# Altium footprint library Fedor's_pcb.PcbLib: 174 footprints (part 10 of 14)
Each footprint in its own frame and in the unit in brackets; x right, y up, seen from the top. Pads: shape width x height; smd on the part's side, far side on the other; paste and mask are expansions set on the pad; w line width, h text height; cw(c..) or ccw(c..) is an arc to the next point about the centre after c.
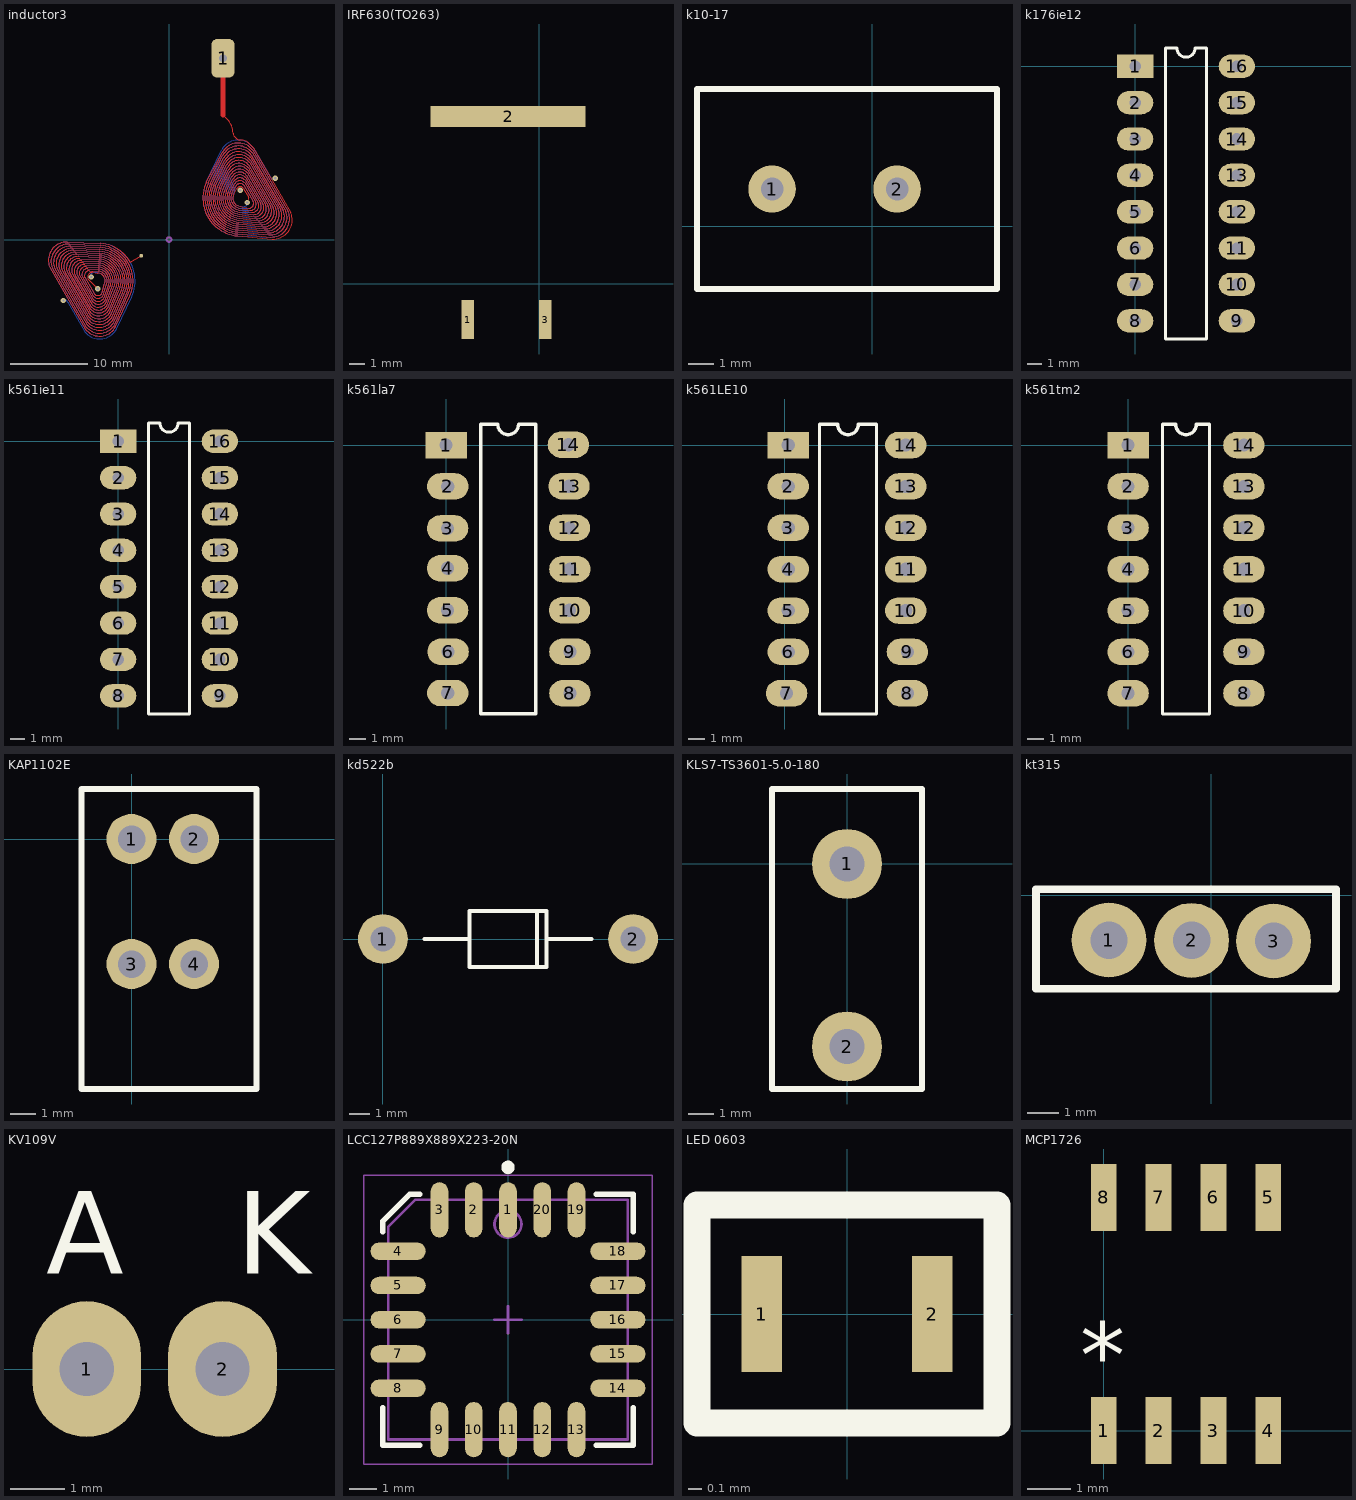
[diagram p9: the footprints below, top view; thin cyan lines are the x and y axes]

## inductor3 [mm]
pads (2):
  rrect50% 3x5 hole 1: 1(7,23.5)
  round 0.5 smd mask+0.07: 2(-3.6,-2.1)
via -10.063,-4.854 diameter 0.7 hole 0.3
via -13.683,-7.9 diameter 0.7 hole 0.3
via -9.233,-6.373 diameter 0.7 hole 0.3
via 10.136,4.81 diameter 0.7 hole 0.3
via 9.233,6.373 diameter 0.7 hole 0.3
via 13.777,7.97 diameter 0.7 hole 0.3
Top Layer:
  lines w0.1: -9.233,-6.373 -10.5,-5.1 cw(c-9.919,-4.868) -9.892,-4.243 -9.214,-4.34 cw(c-9.301,-5.37) -8.365,-5.81 -8.661,-6.912 cw(c-9.216,-6.623) -9.708,-7.011 -10.925,-4.902 cw(c-10.344,-4.67) -10.317,-4.045 -9.193,-4.082 cw(c-9.301,-5.37) -8.131,-5.92 ; -3.6,-2.1 -5.047,-2.914 ccw(c-9.301,-5.37) -8.89,-0.475 -13.162,-0.334 ccw(c-13.265,-2.71) -15.473,-3.591 -10.847,-11.605 ccw(c-8.979,-10.133) -6.871,-11.232 -5.091,-7.351 ccw(c-9.301,-5.37) -8.911,-0.733 -12.959,-0.599 ccw(c-13.057,-2.85) -15.148,-3.685 -10.765,-11.276 ccw(c-8.996,-9.883) -6.999,-10.923 -5.324,-7.241 ccw(c-9.301,-5.37) -8.933,-0.991 -12.756,-0.864 ccw(c-12.848,-2.99) -14.823,-3.779 -10.684,-10.948 ccw(c-9.013,-9.632) -7.127,-10.615 -5.558,-7.131 ccw(c-9.301,-5.37) -8.955,-1.248 -12.553,-1.13 ccw(c-12.639,-3.13) -14.499,-3.872 -10.603,-10.62 ccw(c-9.03,-9.381) -7.254,-10.306 -5.792,-7.021 ccw(c-9.301,-5.37) -8.976,-1.506 -12.349,-1.395 ccw(c-12.431,-3.27) -14.174,-3.966 -10.521,-10.292 ccw(c-9.047,-9.13) -7.382,-9.998 -6.026,-6.911 ccw(c-9.301,-5.37) -8.998,-1.764 -12.146,-1.66 ccw(c-12.222,-3.41) -13.849,-4.059 -10.44,-9.964 ccw(c-9.064,-8.88) -7.51,-9.689 -6.26,-6.801 ccw(c-9.301,-5.37) -9.02,-2.021 -11.943,-1.925 ccw(c-12.013,-3.55) -13.524,-4.153 -10.359,-9.636 ccw(c-9.081,-8.629) -7.638,-9.381 -6.494,-6.691 ccw(c-9.301,-5.37) -9.041,-2.279 -11.74,-2.19 ccw(c-11.805,-3.69) -13.199,-4.247 -10.277,-9.308 ccw(c-9.098,-8.378) -7.766,-9.072 -6.728,-6.58 ccw(c-9.301,-5.37) -9.063,-2.536 -11.536,-2.455 ccw(c-11.596,-3.83) -12.874,-4.34 -10.196,-8.979 ccw(c-9.115,-8.128) -7.894,-8.764 -6.962,-6.47 ccw(c-9.301,-5.37) -9.084,-2.794 -11.333,-2.72 ccw(c-11.387,-3.97) -12.55,-4.434 -10.115,-8.651 ccw(c-9.132,-7.877) -8.022,-8.455 -7.196,-6.36 ccw(c-9.301,-5.37) -9.106,-3.052 -11.13,-2.985 ccw(c-11.179,-4.11) -12.225,-4.527 -10.033,-8.323 ccw(c-9.149,-7.626) -8.15,-8.147 -7.43,-6.25 ccw(c-9.301,-5.37) -9.128,-3.309 -10.927,-3.25 ccw(c-10.97,-4.25) -11.9,-4.621 -9.952,-7.995 ccw(c-9.166,-7.376) -8.278,-7.838 -7.664,-6.14 ccw(c-9.301,-5.37) -9.149,-3.567 -10.724,-3.515 ccw(c-10.762,-4.39) -11.575,-4.715 -9.87,-7.667 ccw(c-9.182,-7.125) -8.406,-7.53 -7.898,-6.03 ; 7,16.135 7.556,15.579 cw(c5.76,13.783) 8.3,13.783 ccw(c8.983,13.783) 8.5,13.3 8.688,13.112 ccw(c9.2,13.624) 9.2,12.9 cw(c9.2,11.063) 10.499,12.362 10.928,11.933 15.798,3.498 cw(c13.474,2.57) 13.366,0.069 8.89,0.475 cw(c9.301,5.37) 4.857,7.461 6.871,11.232 cw(c8.979,10.133) 10.847,11.604 15.473,3.591 cw(c13.265,2.71) 13.162,0.334 8.911,0.733 cw(c9.301,5.37) 5.091,7.351 6.999,10.923 cw(c8.996,9.883) 10.765,11.276 15.148,3.685 cw(c13.057,2.85) 12.959,0.599 8.933,0.991 cw(c9.301,5.37) 5.324,7.241 7.127,10.615 cw(c9.013,9.632) 10.684,10.948 14.823,3.779 cw(c12.848,2.99) 12.756,0.864 8.955,1.248 cw(c9.301,5.37) 5.558,7.131 7.254,10.306 cw(c9.03,9.381) 10.603,10.62 14.499,3.872 cw(c12.639,3.13) 12.553,1.13 8.976,1.506 cw(c9.301,5.37) 5.792,7.021 7.382,9.998 cw(c9.047,9.13) 10.521,10.292 14.174,3.966 cw(c12.431,3.27) 12.349,1.395 8.998,1.764 cw(c9.301,5.37) 6.026,6.911 7.51,9.689 cw(c9.064,8.88) 10.44,9.964 13.849,4.059 cw(c12.222,3.41) 12.146,1.66 9.02,2.021 cw(c9.301,5.37) 6.26,6.801 7.638,9.381 cw(c9.081,8.629) 10.359,9.636 13.524,4.153 cw(c12.013,3.55) 11.943,1.925 9.041,2.279 cw(c9.301,5.37) 6.494,6.691 7.766,9.072 cw(c9.098,8.378) 10.277,9.308 13.199,4.247 cw(c11.805,3.69) 11.74,2.19 9.063,2.536 cw(c9.301,5.37) 6.728,6.58 7.894,8.764 cw(c9.115,8.128) 10.196,8.979 12.874,4.34 cw(c11.596,3.83) 11.536,2.455 9.084,2.794 cw(c9.301,5.37) 6.962,6.47 8.022,8.455 cw(c9.132,7.877) 10.115,8.651 12.55,4.434 cw(c11.387,3.97) 11.333,2.72 9.106,3.052 cw(c9.301,5.37) 7.196,6.36 8.15,8.147 cw(c9.149,7.626) 10.033,8.323 12.225,4.527 cw(c11.179,4.11) 11.13,2.985 9.128,3.309 cw(c9.301,5.37) 7.43,6.25 8.278,7.838 cw(c9.166,7.376) 9.952,7.995 11.9,4.621 cw(c10.97,4.25) 10.927,3.25 9.149,3.567 cw(c9.301,5.37) 7.664,6.14 8.406,7.53 cw(c9.182,7.125) 9.87,7.667 11.575,4.715 cw(c10.762,4.39) 10.724,3.515 9.171,3.824 ; 10.136,4.81 10.26,5.026 ccw(c9.75,5.321) 10.319,5.474 9.626,6.682 ccw(c9.233,6.373) 8.789,6.604 8.365,5.81 ccw(c9.301,5.37) 9.214,4.34 10.317,4.045 ccw(c10.344,4.67) 10.925,4.902 9.708,7.011 ccw(c9.216,6.623) 8.661,6.912 8.131,5.92 ccw(c9.301,5.37) 9.193,4.082 ; -11.25,-4.808 cw(c-10.553,-4.53) -10.52,-3.78 ; -11.25,-4.808 cw(c-10.553,-4.53) -10.52,-3.78 ; -11.25,-4.808 -9.789,-7.339 ; -11.25,-4.808 -9.789,-7.339 ; -10.52,-3.78 -9.171,-3.824 ; -10.52,-3.78 -9.171,-3.824 ; -9.789,-7.339 ccw(c-9.199,-6.874) -8.534,-7.221 ; -9.789,-7.339 ccw(c-9.199,-6.874) -8.534,-7.221 ; -9.171,-3.824 cw(c-9.301,-5.37) -7.898,-6.03 ; -9.171,-3.824 cw(c-9.301,-5.37) -7.898,-6.03 ; -8.534,-7.221 -8.131,-5.92 ; -8.534,-7.221 -8.131,-5.92 ; 7.898,6.03 ccw(c9.301,5.37) 9.171,3.824 ; 7.898,6.03 ccw(c9.301,5.37) 9.171,3.824 ; 7.898,6.03 8.534,7.221 ; 7.898,6.03 8.534,7.221 ; 8.534,7.221 cw(c9.199,6.874) 9.789,7.339 ; 8.534,7.221 cw(c9.199,6.874) 9.789,7.339 ; 9.193,4.082 10.52,3.78 ; 9.193,4.082 10.52,3.78 ; 9.789,7.339 11.25,4.808 ; 9.789,7.339 11.25,4.808 ; 10.52,3.78 ccw(c10.553,4.53) 11.25,4.808 ; 10.52,3.78 ccw(c10.553,4.53) 11.25,4.808
  lines w0.6: 7,16.135 7,23.5
Mid-Layer 1:
  lines w0.1: -10.136,-4.81 -10.26,-5.026 ; -10.063,-4.854 -10.26,-5.026 ; -3.651,-2.108 -5.047,-2.914 cw(c-9.301,-5.37) -4.857,-7.461 -6.871,-11.232 cw(c-8.979,-10.133) -10.847,-11.604 -15.473,-3.591 cw(c-13.265,-2.71) -13.162,-0.334 -8.911,-0.733 cw(c-9.301,-5.37) -5.091,-7.351 -6.999,-10.923 cw(c-8.996,-9.883) -10.765,-11.276 -15.148,-3.685 cw(c-13.057,-2.85) -12.959,-0.599 -8.933,-0.991 cw(c-9.301,-5.37) -5.324,-7.241 -7.127,-10.615 cw(c-9.013,-9.632) -10.684,-10.948 -14.823,-3.779 cw(c-12.848,-2.99) -12.756,-0.864 -8.955,-1.248 cw(c-9.301,-5.37) -5.558,-7.131 -7.254,-10.306 cw(c-9.03,-9.381) -10.603,-10.62 -14.499,-3.872 cw(c-12.639,-3.13) -12.553,-1.13 -8.976,-1.506 cw(c-9.301,-5.37) -5.792,-7.021 -7.382,-9.998 cw(c-9.047,-9.13) -10.521,-10.292 -14.174,-3.966 cw(c-12.431,-3.27) -12.349,-1.395 -8.998,-1.764 cw(c-9.301,-5.37) -6.026,-6.911 -7.51,-9.689 cw(c-9.064,-8.88) -10.44,-9.964 -13.849,-4.059 cw(c-12.222,-3.41) -12.146,-1.66 -9.02,-2.021 cw(c-9.301,-5.37) -6.26,-6.801 -7.638,-9.381 cw(c-9.081,-8.629) -10.359,-9.636 -13.524,-4.153 cw(c-12.013,-3.55) -11.943,-1.925 -9.041,-2.279 cw(c-9.301,-5.37) -6.494,-6.691 -7.766,-9.072 cw(c-9.098,-8.378) -10.277,-9.308 -13.199,-4.247 cw(c-11.805,-3.69) -11.74,-2.19 -9.063,-2.536 cw(c-9.301,-5.37) -6.728,-6.58 -7.894,-8.764 cw(c-9.115,-8.128) -10.196,-8.979 -12.874,-4.34 cw(c-11.596,-3.83) -11.536,-2.455 -9.084,-2.794 cw(c-9.301,-5.37) -6.962,-6.47 -8.022,-8.455 cw(c-9.132,-7.877) -10.115,-8.651 -12.55,-4.434 cw(c-11.387,-3.97) -11.333,-2.72 -9.106,-3.052 cw(c-9.301,-5.37) -7.196,-6.36 -8.15,-8.147 cw(c-9.149,-7.626) -10.033,-8.323 -12.225,-4.527 cw(c-11.179,-4.11) -11.13,-2.985 -9.128,-3.309 cw(c-9.301,-5.37) -7.43,-6.25 -8.278,-7.838 cw(c-9.166,-7.376) -9.952,-7.995 -11.9,-4.621 cw(c-10.97,-4.25) -10.927,-3.25 -9.149,-3.567 cw(c-9.301,-5.37) -7.664,-6.14 -8.406,-7.53 cw(c-9.182,-7.125) -9.87,-7.667 -11.575,-4.715 cw(c-10.762,-4.39) -10.724,-3.515 -9.171,-3.824 ; 3.651,2.108 5.047,2.914 ccw(c9.301,5.37) 8.89,0.475 13.162,0.334 ccw(c13.265,2.71) 15.473,3.591 10.847,11.605 ccw(c8.979,10.133) 6.871,11.232 5.091,7.351 ccw(c9.301,5.37) 8.911,0.733 12.959,0.599 ccw(c13.057,2.85) 15.148,3.685 10.765,11.276 ccw(c8.996,9.883) 6.999,10.923 5.324,7.241 ccw(c9.301,5.37) 8.933,0.991 12.756,0.864 ccw(c12.848,2.99) 14.823,3.779 10.684,10.948 ccw(c9.013,9.632) 7.127,10.615 5.558,7.131 ccw(c9.301,5.37) 8.955,1.248 12.553,1.13 ccw(c12.639,3.13) 14.499,3.872 10.603,10.62 ccw(c9.03,9.381) 7.254,10.306 5.792,7.021 ccw(c9.301,5.37) 8.976,1.506 12.349,1.395 ccw(c12.431,3.27) 14.174,3.966 10.521,10.292 ccw(c9.047,9.13) 7.382,9.998 6.026,6.911 ccw(c9.301,5.37) 8.998,1.764 12.146,1.66 ccw(c12.222,3.41) 13.849,4.059 10.44,9.964 ccw(c9.064,8.88) 7.51,9.689 6.26,6.801 ccw(c9.301,5.37) 9.02,2.021 11.943,1.925 ccw(c12.013,3.55) 13.524,4.153 10.359,9.636 ccw(c9.081,8.629) 7.638,9.381 6.494,6.691 ccw(c9.301,5.37) 9.041,2.279 11.74,2.19 ccw(c11.805,3.69) 13.199,4.247 10.277,9.308 ccw(c9.098,8.378) 7.766,9.072 6.728,6.58 ccw(c9.301,5.37) 9.063,2.536 11.536,2.455 ccw(c11.596,3.83) 12.874,4.34 10.196,8.979 ccw(c9.115,8.128) 7.894,8.764 6.962,6.47 ccw(c9.301,5.37) 9.084,2.794 11.333,2.72 ccw(c11.387,3.97) 12.55,4.434 10.115,8.651 ccw(c9.132,7.877) 8.022,8.455 7.196,6.36 ccw(c9.301,5.37) 9.106,3.052 11.13,2.985 ccw(c11.179,4.11) 12.225,4.527 10.033,8.323 ccw(c9.149,7.626) 8.15,8.147 7.43,6.25 ccw(c9.301,5.37) 9.128,3.309 10.927,3.25 ccw(c10.97,4.25) 11.9,4.621 9.952,7.995 ccw(c9.166,7.376) 8.278,7.838 7.664,6.14 ccw(c9.301,5.37) 9.149,3.567 10.724,3.515 ccw(c10.762,4.39) 11.575,4.715 9.87,7.667 ccw(c9.182,7.125) 8.406,7.53 7.898,6.03 ; 9.233,6.373 10.5,5.1 cw(c9.919,4.868) 9.892,4.243 9.214,4.34 cw(c9.301,5.37) 8.365,5.81 8.661,6.912 cw(c9.216,6.623) 9.708,7.011 10.925,4.902 cw(c10.344,4.67) 10.317,4.045 9.193,4.082 cw(c9.301,5.37) 8.131,5.92 ; -11.25,-4.808 cw(c-10.553,-4.53) -10.52,-3.78 ; -11.25,-4.808 cw(c-10.553,-4.53) -10.52,-3.78 ; -11.25,-4.808 -9.789,-7.339 ; -11.25,-4.808 -9.789,-7.339 ; -10.52,-3.78 -9.193,-4.082 ; -10.52,-3.78 -9.193,-4.082 ; -10.26,-5.026 ccw(c-9.75,-5.321) -10.319,-5.474 -9.626,-6.682 ccw(c-9.233,-6.373) -8.789,-6.604 -8.365,-5.81 ccw(c-9.301,-5.37) -9.214,-4.34 -10.317,-4.045 ccw(c-10.344,-4.67) -10.925,-4.902 -9.708,-7.011 ccw(c-9.216,-6.623) -8.661,-6.912 -8.131,-5.92 ccw(c-9.301,-5.37) -9.193,-4.082 ; -9.789,-7.339 ccw(c-9.199,-6.874) -8.534,-7.221 ; -9.789,-7.339 ccw(c-9.199,-6.874) -8.534,-7.221 ; -9.171,-3.824 cw(c-9.301,-5.37) -7.898,-6.03 ; -9.171,-3.824 cw(c-9.301,-5.37) -7.898,-6.03 ; -8.534,-7.221 -7.898,-6.03 ; -8.534,-7.221 -7.898,-6.03 ; 7.898,6.03 ccw(c9.301,5.37) 9.171,3.824 ; 7.898,6.03 ccw(c9.301,5.37) 9.171,3.824 ; 8.131,5.92 8.534,7.221 ; 8.131,5.92 8.534,7.221 ; 8.534,7.221 cw(c9.199,6.874) 9.789,7.339 ; 8.534,7.221 cw(c9.199,6.874) 9.789,7.339 ; 9.171,3.824 10.52,3.78 ; 9.171,3.824 10.52,3.78 ; 9.789,7.339 11.25,4.808 ; 9.789,7.339 11.25,4.808 ; 10.52,3.78 ccw(c10.553,4.53) 11.25,4.808 ; 10.52,3.78 ccw(c10.553,4.53) 11.25,4.808
  lines w0.4: -3.651,-2.108 ccw(c0,0) 3.651,2.108
Mid-Layer 2:
  lines w0.1: -13.683,-7.9 ccw(c-13.868,-7.58) -13.548,-7.395 -13.613,-7.282 -15.798,-3.498 cw(c-13.474,-2.57) -13.366,-0.069 -8.89,-0.475 cw(c-9.301,-5.37) -4.857,-7.461 -6.871,-11.232 cw(c-8.979,-10.133) -10.847,-11.604 -15.473,-3.591 cw(c-13.265,-2.71) -13.162,-0.334 -8.911,-0.733 cw(c-9.301,-5.37) -5.091,-7.351 -6.999,-10.923 cw(c-8.996,-9.883) -10.765,-11.276 -15.148,-3.685 cw(c-13.057,-2.85) -12.959,-0.599 -8.933,-0.991 cw(c-9.301,-5.37) -5.324,-7.241 -7.127,-10.615 cw(c-9.013,-9.632) -10.684,-10.948 -14.823,-3.779 cw(c-12.848,-2.99) -12.756,-0.864 -8.955,-1.248 cw(c-9.301,-5.37) -5.558,-7.131 -7.255,-10.306 cw(c-9.03,-9.381) -10.603,-10.62 -14.499,-3.872 cw(c-12.639,-3.13) -12.553,-1.13 -8.976,-1.506 cw(c-9.301,-5.37) -5.792,-7.021 -7.382,-9.998 cw(c-9.047,-9.13) -10.521,-10.292 -14.174,-3.966 cw(c-12.431,-3.27) -12.349,-1.395 -8.998,-1.764 cw(c-9.301,-5.37) -6.026,-6.911 -7.51,-9.689 cw(c-9.064,-8.88) -10.44,-9.964 -13.849,-4.059 cw(c-12.222,-3.41) -12.146,-1.66 -9.02,-2.021 cw(c-9.301,-5.37) -6.26,-6.801 -7.638,-9.381 cw(c-9.081,-8.629) -10.359,-9.636 -13.524,-4.153 cw(c-12.013,-3.55) -11.943,-1.925 -9.041,-2.279 cw(c-9.301,-5.37) -6.494,-6.691 -7.766,-9.072 cw(c-9.098,-8.378) -10.277,-9.308 -13.199,-4.247 cw(c-11.805,-3.69) -11.74,-2.19 -9.063,-2.536 cw(c-9.301,-5.37) -6.728,-6.58 -7.894,-8.764 cw(c-9.115,-8.128) -10.196,-8.979 -12.874,-4.34 cw(c-11.596,-3.83) -11.536,-2.455 -9.084,-2.794 cw(c-9.301,-5.37) -6.962,-6.47 -8.022,-8.455 cw(c-9.132,-7.877) -10.115,-8.651 -12.55,-4.434 cw(c-11.387,-3.97) -11.333,-2.72 -9.106,-3.052 cw(c-9.301,-5.37) -7.196,-6.36 -8.15,-8.147 cw(c-9.149,-7.626) -10.033,-8.323 -12.225,-4.527 cw(c-11.179,-4.11) -11.13,-2.985 -9.128,-3.309 cw(c-9.301,-5.37) -7.43,-6.25 -8.278,-7.838 cw(c-9.166,-7.376) -9.952,-7.995 -11.9,-4.621 cw(c-10.97,-4.25) -10.927,-3.25 -9.149,-3.567 cw(c-9.301,-5.37) -7.664,-6.14 -8.406,-7.53 cw(c-9.182,-7.125) -9.87,-7.667 -11.575,-4.715 cw(c-10.762,-4.39) -10.724,-3.515 -9.171,-3.824 ; -9.233,-6.373 ccw(c-8.989,-6.231) -8.847,-6.476 ccw(c-9.329,-5.641) -8.398,-5.891 -8.365,-5.81 ccw(c-9.301,-5.37) -9.214,-4.34 -10.317,-4.045 ccw(c-10.344,-4.67) -10.925,-4.902 -9.708,-7.011 ccw(c-9.216,-6.623) -8.661,-6.912 -8.131,-5.92 ccw(c-9.301,-5.37) -9.193,-4.082 ; 9.233,6.373 ccw(c8.989,6.231) 8.847,6.476 ccw(c9.329,5.641) 8.398,5.891 8.365,5.81 ccw(c9.301,5.37) 9.214,4.34 10.317,4.045 ccw(c10.344,4.67) 10.925,4.902 9.708,7.011 ccw(c9.216,6.623) 8.661,6.912 8.131,5.92 ccw(c9.301,5.37) 9.193,4.082 ; 13.683,7.9 ccw(c13.868,7.58) 13.548,7.395 13.613,7.282 15.798,3.498 cw(c13.474,2.57) 13.366,0.069 8.89,0.475 cw(c9.301,5.37) 4.857,7.461 6.871,11.232 cw(c8.979,10.133) 10.847,11.604 15.473,3.591 cw(c13.265,2.71) 13.162,0.334 8.911,0.733 cw(c9.301,5.37) 5.091,7.351 6.999,10.923 cw(c8.996,9.883) 10.765,11.276 15.148,3.685 cw(c13.057,2.85) 12.959,0.599 8.933,0.991 cw(c9.301,5.37) 5.324,7.241 7.127,10.615 cw(c9.013,9.632) 10.684,10.948 14.823,3.779 cw(c12.848,2.99) 12.756,0.864 8.955,1.248 cw(c9.301,5.37) 5.558,7.131 7.255,10.306 cw(c9.03,9.381) 10.603,10.62 14.499,3.872 cw(c12.639,3.13) 12.553,1.13 8.976,1.506 cw(c9.301,5.37) 5.792,7.021 7.382,9.998 cw(c9.047,9.13) 10.521,10.292 14.174,3.966 cw(c12.431,3.27) 12.349,1.395 8.998,1.764 cw(c9.301,5.37) 6.026,6.911 7.51,9.689 cw(c9.064,8.88) 10.44,9.964 13.849,4.059 cw(c12.222,3.41) 12.146,1.66 9.02,2.021 cw(c9.301,5.37) 6.26,6.801 7.638,9.381 cw(c9.081,8.629) 10.359,9.636 13.524,4.153 cw(c12.013,3.55) 11.943,1.925 9.041,2.279 cw(c9.301,5.37) 6.494,6.691 7.766,9.072 cw(c9.098,8.378) 10.277,9.308 13.199,4.247 cw(c11.805,3.69) 11.74,2.19 9.063,2.536 cw(c9.301,5.37) 6.728,6.58 7.894,8.764 cw(c9.115,8.128) 10.196,8.979 12.874,4.34 cw(c11.596,3.83) 11.536,2.455 9.084,2.794 cw(c9.301,5.37) 6.962,6.47 8.022,8.455 cw(c9.132,7.877) 10.115,8.651 12.55,4.434 cw(c11.387,3.97) 11.333,2.72 9.106,3.052 cw(c9.301,5.37) 7.196,6.36 8.15,8.147 cw(c9.149,7.626) 10.033,8.323 12.225,4.527 cw(c11.179,4.11) 11.13,2.985 9.128,3.309 cw(c9.301,5.37) 7.43,6.25 8.278,7.838 cw(c9.166,7.376) 9.952,7.995 11.9,4.621 cw(c10.97,4.25) 10.927,3.25 9.149,3.567 cw(c9.301,5.37) 7.664,6.14 8.406,7.53 cw(c9.182,7.125) 9.87,7.667 11.575,4.715 cw(c10.762,4.39) 10.724,3.515 9.171,3.824 ; -11.25,-4.808 cw(c-10.553,-4.53) -10.52,-3.78 ; -11.25,-4.808 cw(c-10.553,-4.53) -10.52,-3.78 ; -11.25,-4.808 -9.789,-7.339 ; -11.25,-4.808 -9.789,-7.339 ; -10.52,-3.78 -9.193,-4.082 ; -10.52,-3.78 -9.193,-4.082 ; -9.789,-7.339 ccw(c-9.199,-6.874) -8.534,-7.221 ; -9.789,-7.339 ccw(c-9.199,-6.874) -8.534,-7.221 ; -9.171,-3.824 cw(c-9.301,-5.37) -7.898,-6.03 ; -9.171,-3.824 cw(c-9.301,-5.37) -7.898,-6.03 ; -8.534,-7.221 -7.898,-6.03 ; -8.534,-7.221 -7.898,-6.03 ; 7.898,6.03 ccw(c9.301,5.37) 9.171,3.824 ; 7.898,6.03 ccw(c9.301,5.37) 9.171,3.824 ; 7.898,6.03 8.534,7.221 ; 7.898,6.03 8.534,7.221 ; 8.534,7.221 cw(c9.199,6.874) 9.789,7.339 ; 8.534,7.221 cw(c9.199,6.874) 9.789,7.339 ; 9.193,4.082 10.52,3.78 ; 9.193,4.082 10.52,3.78 ; 9.789,7.339 11.25,4.808 ; 9.789,7.339 11.25,4.808 ; 10.52,3.78 ccw(c10.553,4.53) 11.25,4.808 ; 10.52,3.78 ccw(c10.553,4.53) 11.25,4.808
Bottom Layer:
  lines w0.1: -13.683,-7.9 cw(c-13.498,-8.22) -13.178,-8.035 -13.113,-8.148 -10.928,-11.933 ccw(c-8.962,-10.384) -6.743,-11.54 -4.857,-7.461 ccw(c-9.301,-5.37) -8.89,-0.475 -13.162,-0.334 ccw(c-13.265,-2.71) -15.473,-3.591 -10.847,-11.605 ccw(c-8.979,-10.133) -6.871,-11.232 -5.091,-7.351 ccw(c-9.301,-5.37) -8.911,-0.733 -12.959,-0.599 ccw(c-13.057,-2.85) -15.148,-3.685 -10.765,-11.276 ccw(c-8.996,-9.883) -6.999,-10.923 -5.324,-7.241 ccw(c-9.301,-5.37) -8.933,-0.991 -12.756,-0.864 ccw(c-12.848,-2.99) -14.823,-3.779 -10.684,-10.948 ccw(c-9.013,-9.632) -7.127,-10.615 -5.558,-7.131 ccw(c-9.301,-5.37) -8.955,-1.248 -12.553,-1.13 ccw(c-12.639,-3.13) -14.499,-3.872 -10.603,-10.62 ccw(c-9.03,-9.381) -7.254,-10.306 -5.792,-7.021 ccw(c-9.301,-5.37) -8.976,-1.506 -12.349,-1.395 ccw(c-12.431,-3.27) -14.174,-3.966 -10.521,-10.292 ccw(c-9.047,-9.13) -7.382,-9.998 -6.026,-6.911 ccw(c-9.301,-5.37) -8.998,-1.764 -12.146,-1.66 ccw(c-12.222,-3.41) -13.849,-4.059 -10.44,-9.964 ccw(c-9.064,-8.88) -7.51,-9.689 -6.26,-6.801 ccw(c-9.301,-5.37) -9.02,-2.021 -11.943,-1.925 ccw(c-12.013,-3.55) -13.524,-4.153 -10.359,-9.636 ccw(c-9.081,-8.629) -7.638,-9.381 -6.494,-6.691 ccw(c-9.301,-5.37) -9.041,-2.279 -11.74,-2.19 ccw(c-11.805,-3.69) -13.199,-4.247 -10.277,-9.308 ccw(c-9.098,-8.378) -7.766,-9.072 -6.728,-6.58 ccw(c-9.301,-5.37) -9.063,-2.536 -11.536,-2.455 ccw(c-11.596,-3.83) -12.874,-4.34 -10.196,-8.979 ccw(c-9.115,-8.128) -7.894,-8.764 -6.962,-6.47 ccw(c-9.301,-5.37) -9.084,-2.794 -11.333,-2.72 ccw(c-11.387,-3.97) -12.55,-4.434 -10.115,-8.651 ccw(c-9.132,-7.877) -8.022,-8.455 -7.196,-6.36 ccw(c-9.301,-5.37) -9.106,-3.052 -11.13,-2.985 ccw(c-11.179,-4.11) -12.225,-4.527 -10.033,-8.323 ccw(c-9.149,-7.626) -8.15,-8.147 -7.43,-6.25 ccw(c-9.301,-5.37) -9.128,-3.309 -10.927,-3.25 ccw(c-10.97,-4.25) -11.9,-4.621 -9.952,-7.995 ccw(c-9.166,-7.376) -8.278,-7.838 -7.664,-6.14 ccw(c-9.301,-5.37) -9.149,-3.567 -10.724,-3.515 ccw(c-10.762,-4.39) -11.575,-4.715 -9.87,-7.667 ccw(c-9.182,-7.125) -8.406,-7.53 -7.898,-6.03 ; -10.063,-4.854 -10.143,-4.797 cw(c-9.898,-4.656) -10.04,-4.411 cw(c-9.558,-5.246) -9.308,-4.314 -9.214,-4.34 cw(c-9.301,-5.37) -8.365,-5.81 -8.661,-6.912 cw(c-9.216,-6.623) -9.708,-7.011 -10.925,-4.902 cw(c-10.344,-4.67) -10.317,-4.045 -9.193,-4.082 cw(c-9.301,-5.37) -8.131,-5.92 ; 10.143,4.797 cw(c9.898,4.656) 10.04,4.411 cw(c9.558,5.246) 9.308,4.314 9.214,4.34 cw(c9.301,5.37) 8.365,5.81 8.661,6.912 cw(c9.216,6.623) 9.708,7.011 10.925,4.902 cw(c10.344,4.67) 10.317,4.045 9.193,4.082 cw(c9.301,5.37) 8.131,5.92 ; 13.683,7.9 cw(c13.498,8.22) 13.178,8.035 13.113,8.148 10.928,11.933 ccw(c8.962,10.384) 6.743,11.54 4.857,7.461 ccw(c9.301,5.37) 8.89,0.475 13.162,0.334 ccw(c13.265,2.71) 15.473,3.591 10.847,11.605 ccw(c8.979,10.133) 6.871,11.232 5.091,7.351 ccw(c9.301,5.37) 8.911,0.733 12.959,0.599 ccw(c13.057,2.85) 15.148,3.685 10.765,11.276 ccw(c8.996,9.883) 6.999,10.923 5.324,7.241 ccw(c9.301,5.37) 8.933,0.991 12.756,0.864 ccw(c12.848,2.99) 14.823,3.779 10.684,10.948 ccw(c9.013,9.632) 7.127,10.615 5.558,7.131 ccw(c9.301,5.37) 8.955,1.248 12.553,1.13 ccw(c12.639,3.13) 14.499,3.872 10.603,10.62 ccw(c9.03,9.381) 7.254,10.306 5.792,7.021 ccw(c9.301,5.37) 8.976,1.506 12.349,1.395 ccw(c12.431,3.27) 14.174,3.966 10.521,10.292 ccw(c9.047,9.13) 7.382,9.998 6.026,6.911 ccw(c9.301,5.37) 8.998,1.764 12.146,1.66 ccw(c12.222,3.41) 13.849,4.059 10.44,9.964 ccw(c9.064,8.88) 7.51,9.689 6.26,6.801 ccw(c9.301,5.37) 9.02,2.021 11.943,1.925 ccw(c12.013,3.55) 13.524,4.153 10.359,9.636 ccw(c9.081,8.629) 7.638,9.381 6.494,6.691 ccw(c9.301,5.37) 9.041,2.279 11.74,2.19 ccw(c11.805,3.69) 13.199,4.247 10.277,9.308 ccw(c9.098,8.378) 7.766,9.072 6.728,6.58 ccw(c9.301,5.37) 9.063,2.536 11.536,2.455 ccw(c11.596,3.83) 12.874,4.34 10.196,8.979 ccw(c9.115,8.128) 7.894,8.764 6.962,6.47 ccw(c9.301,5.37) 9.084,2.794 11.333,2.72 ccw(c11.387,3.97) 12.55,4.434 10.115,8.651 ccw(c9.132,7.877) 8.022,8.455 7.196,6.36 ccw(c9.301,5.37) 9.106,3.052 11.13,2.985 ccw(c11.179,4.11) 12.225,4.527 10.033,8.323 ccw(c9.149,7.626) 8.15,8.147 7.43,6.25 ccw(c9.301,5.37) 9.128,3.309 10.927,3.25 ccw(c10.97,4.25) 11.9,4.621 9.952,7.995 ccw(c9.166,7.376) 8.278,7.838 7.664,6.14 ccw(c9.301,5.37) 9.149,3.567 10.724,3.515 ccw(c10.762,4.39) 11.575,4.715 9.87,7.667 ccw(c9.182,7.125) 8.406,7.53 7.898,6.03 ; -11.25,-4.808 cw(c-10.553,-4.53) -10.52,-3.78 ; -11.25,-4.808 cw(c-10.553,-4.53) -10.52,-3.78 ; -11.25,-4.808 -9.789,-7.339 ; -11.25,-4.808 -9.789,-7.339 ; -10.52,-3.78 -9.171,-3.824 ; -10.52,-3.78 -9.171,-3.824 ; -9.789,-7.339 ccw(c-9.199,-6.874) -8.534,-7.221 ; -9.789,-7.339 ccw(c-9.199,-6.874) -8.534,-7.221 ; -9.171,-3.824 cw(c-9.301,-5.37) -7.898,-6.03 ; -9.171,-3.824 cw(c-9.301,-5.37) -7.898,-6.03 ; -8.534,-7.221 -8.131,-5.92 ; -8.534,-7.221 -8.131,-5.92 ; 7.898,6.03 ccw(c9.301,5.37) 9.171,3.824 ; 7.898,6.03 ccw(c9.301,5.37) 9.171,3.824 ; 8.131,5.92 8.534,7.221 ; 8.131,5.92 8.534,7.221 ; 8.534,7.221 cw(c9.199,6.874) 9.789,7.339 ; 8.534,7.221 cw(c9.199,6.874) 9.789,7.339 ; 9.171,3.824 10.52,3.78 ; 9.171,3.824 10.52,3.78 ; 9.789,7.339 11.25,4.808 ; 9.789,7.339 11.25,4.808 ; 10.52,3.78 ccw(c10.553,4.53) 11.25,4.808 ; 10.52,3.78 ccw(c10.553,4.53) 11.25,4.808
Mechanical 1:
  circle w0.254: c0,0 r0.3

## IRF630(TO263) [mm]
pads (3):
  rect 0.8x2.5 smd mask+0.05: 1(-4.6,-2.3) 3(0.4,-2.3)
  rect 10x1.37 smd mask+0.05: 2(-2,10.8)
3D body "IRF630.stp": height 4.2, standoff 0, extent -7.258,-2.567 3.042,11.25

## k10-17 [mm]
pads (2):
  round 1.9 hole 0.9: 1(-4,1.5) 2(1,1.5)
Top Overlay:
  lines w0.254: -7,-2.5 -7,3 -7,5.5 5,5.5 5,-2.5 -2.5,-2.5 -7,-2.5
3D body "K10-17.stp": height 6, standoff -2.1, extent -5.7,-1.85 2.7,4.85

## k176ie12 [mm]
pads (16):
  rect 2.5x1.6 hole 0.8: 1(0,0)
  oval 2.5x1.6 hole 0.8: 2(0,-2.5) 3(0,-5) 4(0,-7.5) 5(0,-10) 6(0,-12.5) 7(0,-15) 8(0,-17.5) 9(7,-17.5) 10(7,-15) 11(7,-12.5) 12(7,-10) 13(7,-7.5) 14(7,-5) 15(7,-2.5) 16(7,0)
Top Overlay:
  lines w0.2: 2.085,-18.75 2.085,1.25 2.875,1.25 ccw(c3.5,1.25) 4.125,1.25 4.915,1.25 4.915,-18.75 2.085,-18.75
3D body "DIP16.stp": height 4.85, standoff -1.81, extent -0.165,-19.9 7.085,2.64

## k561ie11 [mm]
pads (16):
  rect 2.5x1.6 hole 0.8: 1(0,0)
  oval 2.5x1.6 hole 0.8: 2(0,-2.5) 3(0,-5) 4(0,-7.5) 5(0,-10) 6(0,-12.5) 7(0,-15) 8(0,-17.5) 9(7,-17.5) 10(7,-15) 11(7,-12.5) 12(7,-10) 13(7,-7.5) 14(7,-5) 15(7,-2.5) 16(7,0)
Top Overlay:
  lines w0.2: 2.085,-18.75 4.915,-18.75 4.915,1.25 4.125,1.25 cw(c3.5,1.25) 2.875,1.25 2.085,1.25 2.085,-18.75
3D body "DIP16.stp": height 4.85, standoff -1.81, extent -0.13,-19.83 7.12,2.71

## k561la7 [mm]
pads (14):
  rect 2.5x1.6 hole 0.8: 1(0,0)
  oval 2.5x1.6 hole 0.8: 2(0.1,-2.5) 3(0.09,-5.04) 4(0.09,-7.45) 5(0.09,-9.99) 6(0.12,-12.5) 7(0.1,-14.99) 8(7.48,-15.01) 9(7.48,-12.5) 10(7.46,-9.99) 11(7.48,-7.5) 12(7.46,-5.01) 13(7.43,-2.49) 14(7.39,0.02)
Top Overlay:
  lines w0.2: 2.085,-16.25 5.415,-16.25 5.415,1.25 4.375,1.25 cw(c3.75,1.25) 3.125,1.25 2.085,1.25 2.085,-16.25
3D body "DIP14.stp": height 4.85, standoff -2.55, extent 0.165,-17.39 7.415,2.65

## k561LE10 [mm]
pads (14):
  rect 2.5x1.6 hole 0.8: 1(0.2,0)
  oval 2.5x1.6 hole 0.8: 2(0.2,-2.5) 3(0.2,-5) 4(0.2,-7.5) 5(0.2,-10) 6(0.2,-12.5) 7(0.1,-15) 8(7.4,-15) 9(7.4,-12.5) 10(7.3,-10) 11(7.3,-7.5) 12(7.3,-5) 13(7.3,-2.5) 14(7.3,0)
Top Overlay:
  lines w0.2: 2.085,-16.25 2.085,1.25 3.185,1.25 ccw(c3.81,1.25) 4.435,1.25 5.535,1.25 5.535,-16.25 2.085,-16.25
3D body "DIP14.stp": height 4.85, standoff -2.55, extent 0.125,-17.47 7.375,2.57

## k561tm2 [mm]
pads (14):
  rect 2.5x1.6 hole 0.8: 1(0,0)
  oval 2.5x1.6 hole 0.8: 2(0,-2.5) 3(0,-5) 4(0,-7.5) 5(0,-10) 6(0,-12.5) 7(0,-15) 8(7,-15) 9(7,-12.5) 10(7,-10) 11(7,-7.5) 12(7,-5) 13(7,-2.5) 14(7,0)
Top Overlay:
  lines w0.2: 2.085,-16.25 4.915,-16.25 4.915,1.25 4.125,1.25 cw(c3.5,1.25) 2.875,1.25 2.085,1.25 2.085,-16.25
3D body "DIP14.stp": height 4.85, standoff -2.3, extent -0.05,-17.52 7,2.52

## KAP1102E [mm]
pads (4):
  round 2 hole 1.1: 1(0,0) 2(2.5,0) 3(0,-5) 4(2.5,-5)
Top Overlay:
  lines w0.254: -2,-10 -2,1 -2,2 5,2 5,-10 -2,-10
3D body "KAP1102E.stp": height 10.6, standoff -3.1, extent -2.12,-9 4.52,2.5

## kd522b [mm]
pads (2):
  round 2.4 hole 1.2: 1(0,0) 2(12.05,0)
Top Overlay:
  lines w0.2: 2,0 4.175,0 ; 7.417,-1.35 7.417,1.35 ; 7.875,0 10.05,0 ; 4.175,0 4.175,1.35 7.875,1.35 7.875,-1.35 4.175,-1.35 4.175,0
3D body "KD522B.stp": height 2.55, standoff -2.3, extent -0.455,-1.3 12.455,1.4

## KLS7-TS3601-5.0-180 [mm]
pads (2):
  round 2.8 hole 1.4: 1(0,0) 2(0,-7.3)
Top Overlay:
  lines w0.254: -3,-9 3,-9 3,3 0,3 -3,3 -3,-9
3D body "KLS7-TS3601.stp": height 4.6, standoff -2.64, extent -1.8,-7.523 1.7,0.123

## kt315 [mm]
pads (3):
  round 2.4 hole 1.2: 1(-3.28,-1.44) 2(-0.63,-1.45) 3(2,-1.47)
Top Overlay:
  lines w0.254: -5.62,-3 -3,-3 0,-3 3,-3 4,-3 4,0.19 -5.62,0.19 -5.62,-3
3D body "КТ315.stp": height 6, standoff -2.5, extent -4.23,-2.97 2.97,0.03

## KV109V [mm]
pads (2):
  oval 2x2.5 hole 1 paste-2539.97: 1(-5,0) 2(-2.5,0)
Top Overlay:
  text "K" at -2.246,1.754 h1.52
  text "A" at -5.746,1.754 h1.52

## LCC127P889X889X223-20N [mm] "LCC, 20-Pins, Body 8,89x8,89mmx2,23mm, Pitch 1,27mm, IPC Medium Density"
height 2.23
pads (20):
  oval 0.65x2.05 smd: 1(0,4.075) 2(-1.27,4.075) 3(-2.54,4.075) 9(-2.54,-4.075) 10(-1.27,-4.075) 11(0,-4.075) 12(1.27,-4.075) 13(2.54,-4.075) 19(2.54,4.075) 20(1.27,4.075)
  oval 2.05x0.65 smd: 4(-4.075,2.54) 5(-4.075,1.27) 6(-4.075,0) 7(-4.075,-1.27) 8(-4.075,-2.54) 14(4.075,-2.54) 15(4.075,-1.27) 16(4.075,0) 17(4.075,1.27) 18(4.075,2.54)
Top Overlay:
  circle w0.25: c0,5.65 r0.125
  lines w0.2: -4.65,-3.265 -4.65,-4.65 -3.265,-4.65 ; -4.65,3.265 -4.65,3.65 -3.65,4.65 -3.265,4.65 ; 3.265,-4.65 4.65,-4.65 4.65,-3.265 ; 3.265,4.65 4.65,4.65 4.65,3.265
Mechanical 13:
  circle w0.1: c0,3.545 r0.5
  lines w0.1: -4.445,-4.445 4.445,-4.445 4.445,4.445 -3.445,4.445 -4.445,3.445 -4.445,-4.445
Mechanical 15:
  lines w0.05: -5.35,-5.35 5.35,-5.35 5.35,5.35 -5.35,5.35 -5.35,-5.35
  lines w0.1: -0.5,0 0.5,0 ; 0,-0.5 0,0.5
3D body "LCC127P889X889X223-20N.step": height 2.23, standoff 0, extent -4.545,-4.545 4.545,4.545

## LED 0603 [mm]
pads (2):
  rect 0.3x0.85 smd: 1(-0.625,0) 2(0.625,0)
Top Overlay:
  lines w0.2: -1.1,-0.8 -1.1,0.8 1.1,0.8 1.1,-0.8 -1.1,-0.8
3D body "ALSRobot-LED0603(R).step": height 0.6, standoff 0, extent -0.81,-0.4 0.81,0.4

## MCP1726 [mm]
pads (8):
  rect 0.6x1.55 smd mask+0.09: 1(0,0) 2(1.27,0) 3(2.54,0) 4(3.81,0) 5(3.81,5.4) 6(2.54,5.4) 7(1.27,5.4) 8(0,5.4)
Top Overlay:
  text "*" at -0.546,1 h1.52